# Altium footprint library spd1502.PcbLib: 80 footprints (part 4 of 5)
Each footprint in its own frame and in the unit in brackets; x right, y up, seen from the top. Pads: shape width x height; smd on the part's side, far side on the other; paste and mask are expansions set on the pad; w line width, h text height; cw(c..) or ccw(c..) is an arc to the next point about the centre after c.
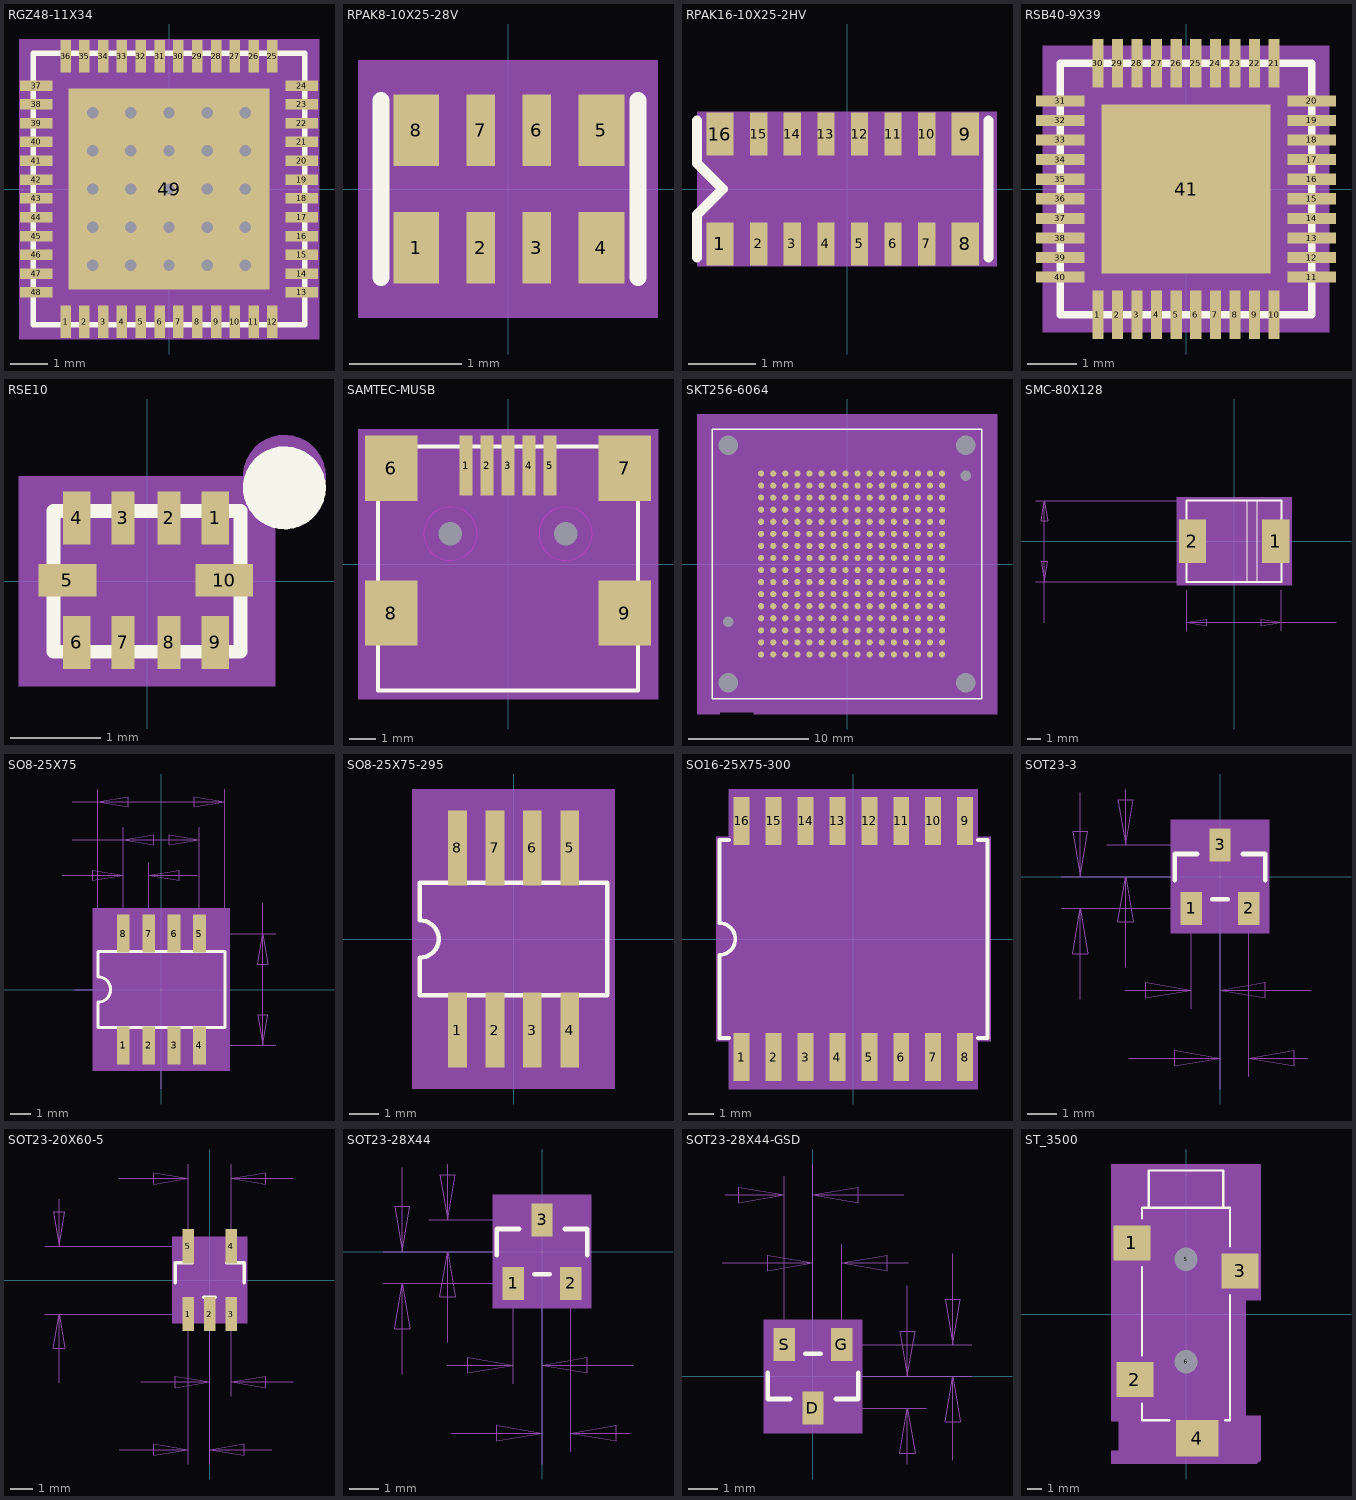
[diagram p3: the footprints below, top view; thin cyan lines are the x and y axes]

## RGZ48-11X34 [mil] "RGZ48-11X34"
pads (49):
  rect 11x34 smd: 1(-108.2,-139) 2(-88.6,-139) 3(-68.9,-139) 4(-49.2,-139) 5(-29.5,-139) 6(-9.8,-139) 7(9.8,-139) 8(29.5,-139) 9(49.2,-139) 10(68.9,-139) 11(88.6,-139) 12(108.2,-139) 25(108.2,139) 26(88.6,139) 27(68.9,139) 28(49.2,139) 29(29.5,139) 30(9.8,139) 31(-9.8,139) 32(-29.5,139) 33(-49.2,139) 34(-68.9,139) 35(-88.6,139) 36(-108.2,139)
  rect 34x11 smd: 13(139,-108.2) 14(139,-88.6) 15(139,-68.9) 16(139,-49.2) 17(139,-29.5) 18(139,-9.8) 19(139,9.8) 20(139,29.5) 21(139,49.2) 22(139,68.9) 23(139,88.6) 24(139,108.2) 37(-139,108.2) 38(-139,88.6) 39(-139,68.9) 40(-139,49.2) 41(-139,29.5) 42(-139,9.8) 43(-139,-9.8) 44(-139,-29.5) 45(-139,-49.2) 46(-139,-68.9) 47(-139,-88.6) 48(-139,-108.2)
  rect 210x210 smd: 49(0,0)
via 80,-80 diameter 25 hole 12
via 40,-80 diameter 25 hole 12
via 0,-80 diameter 25 hole 12
via -40,-80 diameter 25 hole 12
via -80,-80 diameter 25 hole 12
via 80,-40 diameter 25 hole 12
via 40,-40 diameter 25 hole 12
via 0,-40 diameter 25 hole 12
via -40,-40 diameter 25 hole 12
via -80,-40 diameter 25 hole 12
via 80,80 diameter 25 hole 12
via 40,80 diameter 25 hole 12
via 0,80 diameter 25 hole 12
via -40,80 diameter 25 hole 12
via -80,80 diameter 25 hole 12
via 80,40 diameter 25 hole 12
via 40,40 diameter 25 hole 12
via 0,40 diameter 25 hole 12
via -40,40 diameter 25 hole 12
via -80,40 diameter 25 hole 12
via -80,0 diameter 25 hole 12
via -40,0 diameter 25 hole 12
via 80,0 diameter 25 hole 12
via 40,0 diameter 25 hole 12
via 0,0 diameter 25 hole 12
Top Overlay:
  lines w6: -142,-142 -142,142 142,142 142,-142 -142,-142
  text ".Designator" at 105,-210 h35
Mechanical 15:
  text "30" at 12.8,183 h10
  text "4" at -45.2,-163 h10
  text "6" at -5.8,-163 h10
  text "12" at 113.2,-165 h10
  text "32" at -26.5,183 h10
  text "42" at -161,21.8 h10
  text "49" at 11,31 h10
  text "21" at 175,53.2 h10
  text "20" at 175,33.5 h10
  text "15" at 175,-64.9 h10
  text "26" at 91.6,183 h10
  text "2" at -84.6,-163 h10
  text "1" at -104.2,-163 h10
  text "19" at 175,13.8 h10
  text "10" at 72.9,-164 h10
  text "35" at -85.6,183 h10
  text "7" at 13.8,-163 h10
  text "34" at -65.9,183 h10
  text "9" at 53.2,-163 h10
  text "41" at -161,41.5 h10
  text "5" at -25.5,-163 h10
  text "37" at -175,111.2 h10
  text "25" at 111.2,183 h10
  text "44" at -161,-17.5 h10
  text "40" at -175,52.2 h10
  text "31" at -6.8,183 h10
  text "18" at 175,-5.8 h10
  text "36" at -105.2,183 h10
  text "47" at -161,-76.6 h10
  text "43" at -161,2.2 h10
  text "16" at 175,-45.2 h10
  text "17" at 175,-25.5 h10
  text "24" at 175,112.2 h10
  text "29" at 32.5,183 h10
  text "8" at 33.5,-163 h10
  text "39" at -175,71.9 h10
  text "38" at -175,91.6 h10
  text "48" at -161,-96.2 h10
  text "11" at 93.6,-165 h10
  text "14" at 175,-84.6 h10
  text "33" at -46.2,183 h10
  text "3" at -64.9,-163 h10
  text "23" at 175,92.6 h10
  text "22" at 175,72.9 h10
  text "28" at 52.2,183 h10
  text "27" at 71.9,183 h10
  text "13" at 175,-104.2 h10
  text "46" at -161,-56.9 h10
  text "45" at -161,-37.2 h10
Mechanical 16:
  pour cut-out: -142,142 142,142 142,-142 -142,-142
  region: 157,157 -157,157 -157,-157 157,-157
  lines w1: -142,-142 -142,142 142,142 142,-142 -142,-142

## RPAK8-10X25-28V [mil] "RPAK8-10X25-28V"
pads (8):
  rect 16x25 smd: 1(-32.1,-20.5) 4(32.7,-20.5) 5(32.7,20.5) 8(-32.1,20.5)
  rect 10x25 smd: 2(-9.5,-20.5) 3(10.1,-20.5) 6(10.1,20.5) 7(-9.5,20.5)
Top Overlay:
  lines w6: -44.5,-31 -44.5,31 ; 45.5,-31 45.5,31
  text ".Designator" at 690.3,175 h35
Mechanical 15:
  text "2" at -1.5,-20.5 h10
  text "7" at -1.5,25.5 h10
  text "4" at 40.7,-20.5 h10
  text "1" at -24.1,-20.5 h10
  text "8" at -24.1,25.5 h10
  text "6" at 18.1,25.5 h10
  text "3" at 18.1,-20.5 h10
  text "5" at 40.7,25.5 h10
Mechanical 16:
  region: -52.5,45 -52.5,-45 52.5,-45 52.5,45
  lines w2: 19.5,32 39.5,32 ; 39.5,32 39.5,-32 -38.5,-32 -38.5,32 39.5,32
Mechanical 17:
  text "PART#" at -44.1,-115 h40
  text "TOL" at -44.1,-115 h40
  text "RPACK4-22" at -39.1,-115 h40

## RPAK16-10X25-2HV [mil] "RPAK16-10X25-2HV"
pads (16):
  rect 16x25 smd: 1(-74.1,-32) 8(69.1,-32) 9(69.1,32) 16(-74.1,32)
  rect 10x25 smd: 2(-51.5,-32) 3(-31.9,-32) 4(-12.3,-32) 5(7.3,-32) 6(26.9,-32) 7(46.5,-32) 10(46.5,32) 11(26.9,32) 12(7.3,32) 13(-12.3,32) 14(-31.9,32) 15(-51.5,32)
Top Overlay:
  lines w6: -87.5,-40 -87.5,-15 -72.5,0 -87.5,15 -87.5,40 ; 82.5,-40 82.5,40
  text ".Designator" at 187.5,-115 h35
Mechanical 15:
  text "4" at -20.3,-32 h10
  text "2" at -59.5,-32 h10
  text "8" at 61.1,-32 h10
  text "1" at -82.1,-32 h10
  text "16" at -90.1,37 h10
  text "15" at -67.5,37 h10
  text "14" at -47.9,37 h10
  text "13" at -28.3,37 h10
  text "12" at -8.7,37 h10
  text "11" at 10.9,37 h10
  text "10" at 30.5,37 h10
  text "9" at 61.1,32 h10
  text "7" at 38.5,-32 h10
  text "3" at -39.9,-32 h10
  text "6" at 18.9,-32 h10
  text "5" at -0.7,-32 h10
Mechanical 16:
  region: -87.5,45 -87.5,-45 87.5,-45 87.5,45
  lines w2: -22.5,32 72.5,32 72.5,-32 -77.5,-32 -77.5,32 -2.5,32
Mechanical 17:
  text "PART#" at -86.1,-115 h40
  text "TOL" at -86.1,-115 h40
  text "RPACK8-22" at -81.1,-115 h40

## RSB40-9X39 [mil] "RSB40-9X39"
pads (41):
  rrect0% 9x39 smd: 1(-70.8,-101) 2(-55.1,-101) 3(-39.4,-101) 4(-23.6,-101) 5(-7.9,-101) 6(7.9,-101) 7(23.6,-101) 8(39.4,-101) 9(55.1,-101) 10(70.8,-101) 21(70.8,101) 22(55.1,101) 23(39.4,101) 24(23.6,101) 25(7.9,101) 26(-7.9,101) 27(-23.6,101) 28(-39.4,101) 29(-55.1,101) 30(-70.8,101)
  rrect0% 39x9 smd: 11(101,-70.8) 12(101,-55.1) 13(101,-39.4) 14(101,-23.6) 15(101,-7.9) 16(101,7.9) 17(101,23.6) 18(101,39.4) 19(101,55.1) 20(101,70.8) 31(-101,70.8) 32(-101,55.1) 33(-101,39.4) 34(-101,23.6) 35(-101,7.9) 36(-101,-7.9) 37(-101,-23.6) 38(-101,-39.4) 39(-101,-55.1) 40(-101,-70.8)
  rect 136x136 smd: 41(0,0)
Top Overlay:
  lines w6: -101,-101 -101,101 101,101 101,-101 -101,-101
  text ".Designator" at 80,115 h35
Mechanical 15:
  text "31" at -109,70.8 h10
  text "17" at 93,23.6 h10
  text "41" at -11,15 h10
  text "34" at -109,23.6 h10
  text "8" at 35.4,-101 h10
  text "3" at -43.4,-101 h10
  text "40" at -109,-70.8 h10
  text "10" at 62.8,-101 h10
  text "16" at 93,7.9 h10
  text "23" at 31.4,101 h10
  text "26" at -15.9,101 h10
  text "18" at 93,39.4 h10
  text "25" at -0.1,101 h10
  text "38" at -109,-39.4 h10
  text "24" at 15.6,101 h10
  text "1" at -74.8,-101 h10
  text "4" at -27.6,-101 h10
  text "9" at 51.1,-101 h10
  text "21" at 62.8,101 h10
  text "37" at -109,-23.6 h10
  text "13" at 93,-39.4 h10
  text "32" at -109,55.1 h10
  text "12" at 93,-55.1 h10
  text "2" at -59.1,-101 h10
  text "28" at -47.4,101 h10
  text "39" at -109,-55.1 h10
  text "22" at 47.1,101 h10
  text "14" at 93,-23.6 h10
  text "11" at 93,-70.8 h10
  text "27" at -31.6,101 h10
  text "15" at 93,-7.9 h10
  text "7" at 19.6,-101 h10
  text "35" at -109,7.9 h10
  text "19" at 93,55.1 h10
  text "36" at -109,-7.9 h10
  text "6" at 3.9,-101 h10
  text "5" at -11.9,-101 h10
  text "29" at -63.1,101 h10
  text "30" at -78.8,101 h10
  text "33" at -109,39.4 h10
  text "20" at 93,70.8 h10
Mechanical 16:
  region: 115,-115 115,115 -115,115 -115,-115
  lines w1: -101,-101 -101,101 101,101 101,-101 -101,-101

## RSE10 [mil] "RSE10"
pads (10):
  rect 12x23 smd: 1(29.5,27.5) 4(-30.5,27.5) 6(-30.5,-26.5) 9(29.5,-26.5)
  rect 10x23 smd: 2(9.5,27.5) 3(-10.5,27.5) 7(-10.5,-26.5) 8(9.5,-26.5)
  rect 25x14 smd: 5(-34.5,0.5) 10(33.5,0.5)
Top Overlay:
  circle w6: c54.5,40.5 r5
  circle w6: c59.5,40.5 r15
  circle w6: c59.5,40.5 r10
  circle w6: c59.5,40.5 r5
  lines w6: -40.5,-30.5 -40.5,30.5 40.5,30.5 40.5,-30.5 -40.5,-30.5
  text ".Designator" at -150.5,50.5 h35
Mechanical 15:
  text "6" at -37.5,-36.5 h25
  text "4" at -38.5,24.5 h25
  text "9" at 23.5,-35.5 h25
  text "5" at -43.5,-6.5 h25
  text "3" at -18.5,22.5 h25
  text "2" at 3.5,23.5 h25
  text "7" at -16.5,-35.5 h25
  text "8" at 1.5,-36.5 h25
  text "10" at 22.5,-28.5 h25
  text "1" at 23.5,23.5 h25
Mechanical 16:
  circle w6: c54.5,45.5 r5
  circle w6: c59.5,45.5 r15
  circle w6: c59.5,45.5 r10
  circle w6: c59.5,45.5 r5
  pour cut-out: 40.5,30.5 40.5,-30.5 -40.5,-30.5 -40.5,30.5
  region: 55.5,45.5 -55.5,45.5 -55.5,-45.5 55.5,-45.5
  lines w1: -40.5,-30.5 -40.5,30.5 40.5,30.5 40.5,-30.5 -40.5,-30.5

## SAMTEC-MUSB [mil] "SAMTEC-MUSB"
pads (11):
  rect 20x90 smd: 1(-63,147.5) 2(-31.5,147.5) 3(0,147.5) 4(31.5,147.5) 5(63,147.5)
  rect 79x98 smd: 6(-175,143.5) 7(175,143.5) 8(-175,-73.5) 9(175,-73.5)
  round 20 / inner round 80 / far side round 20 hole 35: " "(-86.5,45.5) " "(86.5,45.5)
Top Overlay:
  lines w6: -195,-189.5 195,-189.5 195,176.5 -195,176.5 -195,-189.5
  text ".Designator" at -275,12.5 h35
Mechanical 15:
  text "4" at 31.5,163.5 h40
  text "5" at 63,163.5 h40
  text "6" at -175,159.5 h40
  text "8" at -175,-57.5 h40
  text "7" at 175,159.5 h40
  text "9" at 175,-57.5 h40
  text "1" at -63,163.5 h40
  text "2" at -31.5,163.5 h40
  text "3" at 0,163.5 h40
Mechanical 16:
  region: -225,202.5 225,202.5 225,-202.5 -225,-202.5
  lines w6: -195,-189.5 -195,176.5 195,176.5 195,-189.5 -195,-189.5
Multi-Layer keep-out:
  circle w1: c86.5,45.5 r40
  circle w1: c-86.5,45.5 r40

## SKT256-6064 [mil] "SKT256-6064"
pads (262):
  round 40 / inner round 93 / far side round 40 hole 63: " "(-388.3,-388.3) " "(-388.3,388.3) " "(388.3,-388.3) " "(388.3,388.3)
  round 20 / inner round 80 / far side round 20 hole 34: " "(-388.3,-188.3) " "(388.3,288.3)
  round 20 smd: A1(-280.4,295.5) A2(-241,295.5) A3(-201.6,295.5) A4(-162.2,295.5) A5(-122.8,295.5) A6(-83.4,295.5) A7(-44,295.5) A8(-4.6,295.5) A9(34.8,295.5) A10(74.2,295.5) A11(113.6,295.5) A12(153,295.5) A13(192.4,295.5) A14(231.8,295.5) A15(271.2,295.5) A16(310.6,295.5) B1(-280.4,256.1) B2(-241,256.1) B3(-201.6,256.1) B4(-162.2,256.1) B5(-122.8,256.1) B6(-83.4,256.1) B7(-44,256.1) B8(-4.6,256.1) B9(34.8,256.1) B10(74.2,256.1) B11(113.6,256.1) B12(153,256.1) B13(192.4,256.1) B14(231.8,256.1) B15(271.2,256.1) B16(310.6,256.1) C1(-280.4,216.7) C2(-241,216.7) C3(-201.6,216.7) C4(-162.2,216.7) C5(-122.8,216.7) C6(-83.4,216.7) C7(-44,216.7) C8(-4.6,216.7) C9(34.8,216.7) C10(74.2,216.7) C11(113.6,216.7) C12(153,216.7) C13(192.4,216.7) C14(231.8,216.7) C15(271.2,216.7) C16(310.6,216.7) D1(-280.4,177.3) D2(-241,177.3) D3(-201.6,177.3) D4(-162.2,177.3) D5(-122.8,177.3) D6(-83.4,177.3) D7(-44,177.3) D8(-4.6,177.3) D9(34.8,177.3) D10(74.2,177.3) D11(113.6,177.3) D12(153,177.3) D13(192.4,177.3) D14(231.8,177.3) D15(271.2,177.3) D16(310.6,177.3) E1(-280.4,137.9) E2(-241,137.9) E3(-201.6,137.9) E4(-162.2,137.9) E5(-122.8,137.9) E6(-83.4,137.9) E7(-44,137.9) E8(-4.6,137.9) E9(34.8,137.9) E10(74.2,137.9) E11(113.6,137.9) E12(153,137.9) E13(192.4,137.9) E14(231.8,137.9) E15(271.2,137.9) E16(310.6,137.9) F1(-280.4,98.5) F2(-241,98.5) F3(-201.6,98.5) F4(-162.2,98.5) F5(-122.8,98.5) F6(-83.4,98.5) F7(-44,98.5) F8(-4.6,98.5) F9(34.8,98.5) F10(74.2,98.5) F11(113.6,98.5) F12(153,98.5) F13(192.4,98.5) F14(231.8,98.5) F15(271.2,98.5) F16(310.6,98.5) G1(-280.4,59.1) G2(-241,59.1) G3(-201.6,59.1) G4(-162.2,59.1) G5(-122.8,59.1) G6(-83.4,59.1) G7(-44,59.1) G8(-4.6,59.1) G9(34.8,59.1) G10(74.2,59.1) G11(113.6,59.1) G12(153,59.1) G13(192.4,59.1) G14(231.8,59.1) G15(271.2,59.1) G16(310.6,59.1) H1(-280.4,19.7) H2(-241,19.7) H3(-201.6,19.7) H4(-162.2,19.7) H5(-122.8,19.7) H6(-83.4,19.7) H7(-44,19.7) H8(-4.6,19.7) H9(34.8,19.7) H10(74.2,19.7) H11(113.6,19.7) H12(153,19.7) H13(192.4,19.7) H14(231.8,19.7) H15(271.2,19.7) H16(310.6,19.7) J1(-280.4,-19.7) J2(-241,-19.7) J3(-201.6,-19.7) J4(-162.2,-19.7) J5(-122.8,-19.7) J6(-83.4,-19.7) J7(-44,-19.7) J8(-4.6,-19.7) J9(34.8,-19.7) J10(74.2,-19.7) J11(113.6,-19.7) J12(153,-19.7) J13(192.4,-19.7) J14(231.8,-19.7) J15(271.2,-19.7) J16(310.6,-19.7) K1(-280.4,-59.1) K2(-241,-59.1) K3(-201.6,-59.1) K4(-162.2,-59.1) K5(-122.8,-59.1) K6(-83.4,-59.1) K7(-44,-59.1) K8(-4.6,-59.1) K9(34.8,-59.1) K10(74.2,-59.1) K11(113.6,-59.1) K12(153,-59.1) K13(192.4,-59.1) K14(231.8,-59.1) K15(271.2,-59.1) K16(310.6,-59.1) L1(-280.4,-98.5) L2(-241,-98.5) L3(-201.6,-98.5) L4(-162.2,-98.5) L5(-122.8,-98.5) L6(-83.4,-98.5) L7(-44,-98.5) L8(-4.6,-98.5) L9(34.8,-98.5) L10(74.2,-98.5) L11(113.6,-98.5) L12(153,-98.5) L13(192.4,-98.5) L14(231.8,-98.5) L15(271.2,-98.5) L16(310.6,-98.5) M1(-280.4,-137.9) M2(-241,-137.9) M3(-201.6,-137.9) M4(-162.2,-137.9) M5(-122.8,-137.9) M6(-83.4,-137.9) M7(-44,-137.9) M8(-4.6,-137.9) M9(34.8,-137.9) M10(74.2,-137.9) M11(113.6,-137.9) M12(153,-137.9) M13(192.4,-137.9) M14(231.8,-137.9) M15(271.2,-137.9) M16(310.6,-137.9) N1(-280.4,-177.3) N2(-241,-177.3) N3(-201.6,-177.3) N4(-162.2,-177.3) N5(-122.8,-177.3) N6(-83.4,-177.3) N7(-44,-177.3) N8(-4.6,-177.3) N9(34.8,-177.3) N10(74.2,-177.3) N11(113.6,-177.3) N12(153,-177.3) N13(192.4,-177.3) N14(231.8,-177.3) N15(271.2,-177.3) N16(310.6,-177.3) P1(-280.4,-216.7) P2(-241,-216.7) P3(-201.6,-216.7) P4(-162.2,-216.7) P5(-122.8,-216.7) P6(-83.4,-216.7) P7(-44,-216.7) P8(-4.6,-216.7) P9(34.8,-216.7) P10(74.2,-216.7) P11(113.6,-216.7) P12(153,-216.7) P13(192.4,-216.7) P14(231.8,-216.7) P15(271.2,-216.7) P16(310.6,-216.7) R1(-280.4,-256.1) R2(-241,-256.1) R3(-201.6,-256.1) R4(-162.2,-256.1) R5(-122.8,-256.1) R6(-83.4,-256.1) R7(-44,-256.1) R8(-4.6,-256.1) R9(34.8,-256.1) R10(74.2,-256.1) R11(113.6,-256.1) R12(153,-256.1) R13(192.4,-256.1) R14(231.8,-256.1) R15(271.2,-256.1) R16(310.6,-256.1) T1(-280.4,-295.5) T2(-241,-295.5) T3(-201.6,-295.5) T4(-162.2,-295.5) T5(-122.8,-295.5) T6(-83.4,-295.5) T7(-44,-295.5) T8(-4.6,-295.5) T9(34.8,-295.5) T10(74.2,-295.5) T11(113.6,-295.5) T12(153,-295.5) T13(192.4,-295.5) T14(231.8,-295.5) T15(271.2,-295.5) T16(310.6,-295.5)
Top Overlay:
  lines w6: -440,-440 -440,440 440,440 440,-440 -440,-440
Mechanical 15:
  text "N2" at -249,-177.3 h10
  text "A15" at 259.2,295.5 h10
  text "A16" at 298.6,295.5 h10
  text "B2" at -249,256.1 h10
  text "A1" at -288.4,295.5 h10
  text "A2" at -249,295.5 h10
  text "F8" at -12.6,98.5 h10
  text "E11" at 101.6,137.9 h10
  text "E10" at 62.2,137.9 h10
  text "F10" at 62.2,98.5 h10
  text "F9" at 26.8,98.5 h10
  text "G8" at -12.6,59.1 h10
  text "G9" at 26.8,59.1 h10
  text "E7" at -52,137.9 h10
  text "E6" at -91.4,137.9 h10
  text "H8" at -12.6,19.7 h10
  text "H9" at 26.8,19.7 h10
  text "K8" at -12.6,-59.1 h10
  text "J8" at -12.6,-19.7 h10
  text "L10" at 62.2,-98.5 h10
  text "M10" at 62.2,-137.9 h10
  text "L9" at 26.8,-98.5 h10
  text "M11" at 101.6,-137.9 h10
  text "J9" at 26.8,-19.7 h10
  text "K9" at 26.8,-59.1 h10
  text "M7" at -52,-137.9 h10
  text "L7" at -52,-98.5 h10
  text "M6" at -91.4,-137.9 h10
  text "L8" at -12.6,-98.5 h10
  text "T15" at 259.2,-295.5 h10
  text "T16" at 298.6,-295.5 h10
  text "T1" at -288.4,-295.5 h10
  text "T2" at -249,-295.5 h10
  text "M2" at -249,-137.9 h10
  text "L3" at -209.6,-98.5 h10
  text "D4" at -170.2,177.3 h10
  text "A7" at -52,295.5 h10
  text "C5" at -130.8,216.7 h10
  text "P2" at -249,-216.7 h10
  text "N6" at -91.4,-177.3 h10
  text "M1" at -288.4,-137.9 h10
  text "L2" at -249,-98.5 h10
  text "T7" at -52,-295.5 h10
  text "L16" at 298.6,-98.5 h10
  text "C7" at -52,216.7 h10
  text "N12" at 141,-177.3 h10
  text "B5" at -130.8,256.1 h10
  text "B6" at -91.4,256.1 h10
  text "B3" at -209.6,256.1 h10
  text "A3" at -209.6,295.5 h10
  text "N10" at 62.2,-177.3 h10
  text "T14" at 219.8,-295.5 h10
  text "P11" at 101.6,-216.7 h10
  text "N7" at -52,-177.3 h10
  text "L1" at -288.4,-98.5 h10
  text "R14" at 219.8,-256.1 h10
  text "B7" at -52,256.1 h10
  text "C8" at -12.6,216.7 h10
  text "N1" at -288.4,-177.3 h10
  text "P12" at 141,-216.7 h10
  text "N3" at -209.6,-177.3 h10
  text "T13" at 180.4,-295.5 h10
  text "B4" at -170.2,256.1 h10
  text "R15" at 259.2,-256.1 h10
  text "H12" at 141,19.7 h10
  text "H6" at -91.4,19.7 h10
  text "R13" at 180.4,-256.1 h10
  text "N8" at -12.6,-177.3 h10
  text "T3" at -209.6,-295.5 h10
  text "M14" at 219.8,-137.9 h10
  text "M3" at -209.6,-137.9 h10
  text "P15" at 259.2,-216.7 h10
  text "K3" at -209.6,-59.1 h10
  text "A5" at -130.8,295.5 h10
  text "P13" at 180.4,-216.7 h10
  text "N15" at 259.2,-177.3 h10
  text "A4" at -170.2,295.5 h10
  text "N13" at 180.4,-177.3 h10
  text "M15" at 259.2,-137.9 h10
  text "N11" at 101.6,-177.3 h10
  text "R9" at 26.8,-256.1 h10
  text "T9" at 26.8,-295.5 h10
  text "R10" at 62.2,-256.1 h10
  text "N9" at 26.8,-177.3 h10
  text "P9" at 26.8,-216.7 h10
  text "T10" at 62.2,-295.5 h10
  text "T12" at 141,-295.5 h10
  text "P8" at -12.6,-216.7 h10
  text "M13" at 180.4,-137.9 h10
  text "R8" at -12.6,-256.1 h10
  text "F7" at -52,98.5 h10
  text "P16" at 298.6,-216.7 h10
  text "B16" at 298.6,256.1 h10
  text "E8" at -12.6,137.9 h10
  text "E9" at 26.8,137.9 h10
  text "F11" at 101.6,98.5 h10
  text "E12" at 141,137.9 h10
  text "G12" at 141,59.1 h10
  text "F12" at 141,98.5 h10
  text "E5" at -130.8,137.9 h10
  text "F5" at -130.8,98.5 h10
  text "G5" at -130.8,59.1 h10
  text "M8" at -12.6,-137.9 h10
  text "M9" at 26.8,-137.9 h10
  text "M12" at 141,-137.9 h10
  text "L11" at 101.6,-98.5 h10
  text "L12" at 141,-98.5 h10
  text "K12" at 141,-59.1 h10
  text "M5" at -130.8,-137.9 h10
  text "K5" at -130.8,-59.1 h10
  text "L5" at -130.8,-98.5 h10
  text "R16" at 298.6,-256.1 h10
  text "R1" at -288.4,-256.1 h10
  text "P14" at 219.8,-216.7 h10
  text "N16" at 298.6,-177.3 h10
  text "D1" at -288.4,177.3 h10
  text "H10" at 62.2,19.7 h10
  text "H11" at 101.6,19.7 h10
  text "G11" at 101.6,59.1 h10
  text "G10" at 62.2,59.1 h10
  text "L6" at -91.4,-98.5 h10
  text "K6" at -91.4,-59.1 h10
  text "J6" at -91.4,-19.7 h10
  text "K11" at 101.6,-59.1 h10
  text "K10" at 62.2,-59.1 h10
  text "J11" at 101.6,-19.7 h10
  text "J12" at 141,-19.7 h10
  text "J10" at 62.2,-19.7 h10
  text "J7" at -52,-19.7 h10
  text "K7" at -52,-59.1 h10
  text "H7" at -52,19.7 h10
  text "G6" at -91.4,59.1 h10
  text "G7" at -52,59.1 h10
  text "F6" at -91.4,98.5 h10
  text "R12" at 141,-256.1 h10
  text "N14" at 219.8,-177.3 h10
  text "M16" at 298.6,-137.9 h10
  text "E2" at -249,137.9 h10
  text "F1" at -288.4,98.5 h10
  text "K1" at -288.4,-59.1 h10
  text "G3" at -209.6,59.1 h10
  text "J3" at -209.6,-19.7 h10
  text "J2" at -249,-19.7 h10
  text "R7" at -52,-256.1 h10
  text "J1" at -288.4,-19.7 h10
  text "H2" at -249,19.7 h10
  text "G2" at -249,59.1 h10
  text "C1" at -288.4,216.7 h10
  text "F2" at -249,98.5 h10
  text "C2" at -249,216.7 h10
  text "H1" at -288.4,19.7 h10
  text "B1" at -288.4,256.1 h10
  text "H3" at -209.6,19.7 h10
  text "C3" at -209.6,216.7 h10
  text "J5" at -130.8,-19.7 h10
  text "D2" at -249,177.3 h10
  text "J4" at -170.2,-19.7 h10
  text "E3" at -209.6,137.9 h10
  text "E4" at -170.2,137.9 h10
  text "H5" at -130.8,19.7 h10
  text "D3" at -209.6,177.3 h10
  text "F16" at 298.6,98.5 h10
  text "G14" at 219.8,59.1 h10
  text "G13" at 180.4,59.1 h10
  text "G16" at 298.6,59.1 h10
  text "P3" at -209.6,-216.7 h10
  text "H13" at 180.4,19.7 h10
  text "R5" at -130.8,-256.1 h10
  text "H16" at 298.6,19.7 h10
  text "J13" at 180.4,-19.7 h10
  text "R6" at -91.4,-256.1 h10
  text "P4" at -170.2,-216.7 h10
  text "J15" at 259.2,-19.7 h10
  text "P6" at -91.4,-216.7 h10
  text "C6" at -91.4,216.7 h10
  text "J16" at 298.6,-19.7 h10
  text "N4" at -170.2,-177.3 h10
  text "F4" at -170.2,98.5 h10
  text "G4" at -170.2,59.1 h10
  text "H14" at 219.8,19.7 h10
  text "G15" at 259.2,59.1 h10
  text "C16" at 298.6,216.7 h10
  text "T6" at -91.4,-295.5 h10
  text "N5" at -130.8,-177.3 h10
  text "K15" at 259.2,-59.1 h10
  text "D13" at 180.4,177.3 h10
  text "C15" at 259.2,216.7 h10
  text "B13" at 180.4,256.1 h10
  text "D6" at -91.4,177.3 h10
  text "A12" at 141,295.5 h10
  text "D14" at 219.8,177.3 h10
  text "K14" at 219.8,-59.1 h10
  text "R4" at -170.2,-256.1 h10
  text "B9" at 26.8,256.1 h10
  text "D15" at 259.2,177.3 h10
  text "P5" at -130.8,-216.7 h10
  text "D11" at 101.6,177.3 h10
  text "T5" at -130.8,-295.5 h10
  text "C10" at 62.2,216.7 h10
  text "C11" at 101.6,216.7 h10
  text "D10" at 62.2,177.3 h10
  text "R3" at -209.6,-256.1 h10
  text "C9" at 26.8,216.7 h10
  text "A10" at 62.2,295.5 h10
  text "B10" at 62.2,256.1 h10
  text "D16" at 298.6,177.3 h10
  text "B11" at 101.6,256.1 h10
  text "C12" at 141,216.7 h10
  text "B15" at 259.2,256.1 h10
  text "B12" at 141,256.1 h10
  text "D12" at 141,177.3 h10
  text "E13" at 180.4,137.9 h10
  text "A9" at 26.8,295.5 h10
  text "A11" at 101.6,295.5 h10
  text "L13" at 180.4,-98.5 h10
  text "C14" at 219.8,216.7 h10
  text "D9" at 26.8,177.3 h10
  text "E16" at 298.6,137.9 h10
  text "A8" at -12.6,295.5 h10
  text "C13" at 180.4,216.7 h10
  text "F13" at 180.4,98.5 h10
  text "G1" at -288.4,59.1 h10
  text "F15" at 259.2,98.5 h10
  text "F14" at 219.8,98.5 h10
  text "E15" at 259.2,137.9 h10
  text "E14" at 219.8,137.9 h10
  text "D7" at -52,177.3 h10
  text "P1" at -288.4,-216.7 h10
  text "K2" at -249,-59.1 h10
  text "A14" at 219.8,295.5 h10
  text "B8" at -12.6,256.1 h10
  text "B14" at 219.8,256.1 h10
  text "T4" at -170.2,-295.5 h10
  text "A13" at 180.4,295.5 h10
  text "M4" at -170.2,-137.9 h10
  text "L15" at 259.2,-98.5 h10
  text "A6" at -91.4,295.5 h10
  text "L14" at 219.8,-98.5 h10
  text "R2" at -249,-256.1 h10
  text "K16" at 298.6,-59.1 h10
  text "K4" at -170.2,-59.1 h10
  text "K13" at 180.4,-59.1 h10
  text "J14" at 219.8,-19.7 h10
  text "L4" at -170.2,-98.5 h10
  text "H15" at 259.2,19.7 h10
  text "C4" at -170.2,216.7 h10
  text "D8" at -12.6,177.3 h10
  text "R11" at 101.6,-256.1 h10
  text "T11" at 101.6,-295.5 h10
  text "P10" at 62.2,-216.7 h10
  text "D5" at -130.8,177.3 h10
  text "P7" at -52,-216.7 h10
  text "T8" at -12.6,-295.5 h10
  text "E1" at -288.4,137.9 h10
  text "H4" at -170.2,19.7 h10
  text "F3" at -209.6,98.5 h10
Mechanical 16:
  region: 490,490 -490,490 -490,-490 -415,-490 -415,-485 -305,-485 -305,-490 490,-490
  lines w1: -440,-440 -440,440 440,440 440,-440 -440,-440
Mechanical 17:
  text ".Designator" at -39.4,-407.5 h40
  text "OMAPL137AZKB3" at 13.6,-405.5 h40
  text "TOL" at 47.6,-407.5 h40
  text "PART#" at 3.6,-406.5 h40

## SMC-80X128 [mil] "SMC-80X128"
pads (2):
  rect 80x128 smd: 1(123,0) 2(-123,0)
Top Overlay:
  lines w1: 39,-120 39,120 69,120 69,-120 39,-120
  lines w6: -140,-120 -140,120 140,120 140,-120 -140,-120
  text ".Designator" at 20,175 h35
Mechanical 15:
  text "2" at -144,36 h40
  text "1" at 145,31 h40
Mechanical 16:
  region: 170,-130 -170,-130 -170,130 170,130
  lines w1: -585,-120 -165,-120 ; -585,120 -165,120 ; -560,-241 -560,-120 ; -140,-265 -140,-145 ; 140,-265 140,-145 ; 301,-240 140,-240 ; -560,-120 -550,-60 -570,-60 -560,-120 ; -560,-120 -560,120 ; -560,120 -570,60 -550,60 -560,120 ; -140,-240 -80,-250 -80,-230 -140,-240 ; -140,-240 140,-240 ; 140,-240 80,-230 80,-250 140,-240 ; -140,-120 -140,120 140,120 140,-120 -140,-120 ; 40,-120 40,120 69,120 69,-120 40,-120
Mechanical 20:
  text ".280" at 509,-220 h40
  text ".240" at -580,-271 h40
  text "SMC-80X128" at 217,-345 h40

## SO8-25X75 [mil] "SO8-25X75"
pads (8):
  rrect0% 25x75 smd: 1(-75,-110) 2(-25,-110) 3(25,-110) 4(75,-110) 5(75,110) 6(25,110) 7(-25,110) 8(-75,110)
Top Overlay:
  lines w6: -125,-75 125,-75 125,75 -125,75 -125,25 cw(c-125,0) -125,-25 -125,-75
Mechanical 15:
  text "1" at -91,-110 h40
  text "4" at 59,-110 h40
  text "8" at -91,110 h40
  text "6" at 9,110 h40
  text "7" at -41,110 h40
  text "3" at 9,-110 h40
  text "2" at -41,-110 h40
  text "5" at 59,110 h40
Mechanical 16:
  region: -135,160 135,160 135,-160 -135,-160
  lines w1: -195,225 -75,225 ; -176,295 -75,295 ; -176,370 -125,370 ; -171,0 -25,0 ; -125,100 -125,395 ; -75,250 -75,135 -75,320 ; -25,135 -25,250 ; 0,-196 0,-25 ; 71,225 -25,225 ; 75,135 75,320 ; 100,-110 225,-110 ; 100,110 225,110 ; 125,100 125,395 ; 200,171 200,110 ; -125,-75 -125,-25 ; -125,-75 -125,-25 ; -125,-75 -75,-75 -25,-75 125,-75 125,75 -25,75 -75,75 -125,75 ; -125,-25 ccw(c-125,0) -125,25 ; -125,25 -125,75 ; -125,25 -125,75 ; -125,370 -65,360 -65,380 -125,370 ; -125,370 125,370 ; -75,225 -135,235 -135,215 -75,225 ; -75,295 -15,285 -15,305 -75,295 ; -75,295 75,295 ; -25,225 35,215 35,235 -25,225 ; 75,295 15,305 15,285 75,295 ; 125,370 65,380 65,360 125,370 ; 200,-110 200,110 ; 200,-110 210,-50 190,-50 200,-110 ; 200,110 190,50 210,50 200,110
Mechanical 17:
  text ".Designator" at -5,0 h40
  text "TPS2065D" at -125,-40 h40
  text "X" at -85,-40 h40
  text "X" at -45,-40 h40
Mechanical 20:
  text "PAD 25X75OV" at -225,-350 h40
  text "SM  33X83OV" at -225,-425 h40
  text "SP  25X75OV" at -225,-500 h40
  text "SO8-25X75" at -240,470 h40
  text "0" at -20,-270 h40
  text "0" at -245,-20 h40
  text ".050" at -400,200 h40
  text ".220" at 220,205 h40
  text ".150" at -400,275 h40
  text ".250" at -400,350 h40

## SO8-25X75-295 [mil] "SO8-25X75-295"
pads (8):
  rrect0% 25x100 smd: 1(-75,-121.5) 2(-25,-121.5) 3(25,-121.5) 4(75,-121.5) 5(75,121.5) 6(25,121.5) 7(-25,121.5) 8(-75,121.5)
Top Overlay:
  lines w6: -125,-75 125,-75 125,75 -125,75 -125,25 cw(c-125,0) -125,-25 -125,-75
Mechanical 15:
  text "4" at 59,-121.5 h40
  text "7" at -41,121.5 h40
  text "3" at 9,-121.5 h40
  text "2" at -41,-121.5 h40
  text "1" at -91,-121.5 h40
  text "5" at 59,121.5 h40
  text "6" at 9,121.5 h40
  text "8" at -91,121.5 h40
Mechanical 16:
  region: -135,200 135,200 135,-200 -135,-200
  lines w1: -125,-75 -125,-25 ; -125,-75 -125,-25 ; -125,-75 -75,-75 -25,-75 125,-75 125,75 -25,75 -75,75 -125,75 ; -125,-25 ccw(c-125,0) -125,25 ; -125,25 -125,75 ; -125,25 -125,75
Mechanical 17:
  text ".Designator" at -5,0 h40
  text "24WC256" at -125,-40 h40
  text "X" at -85,-40 h40
  text "X" at -45,-40 h40

## SO16-25X75-300 [mil] "SO16-25X75-300"
pads (16):
  rrect0% 25x75 smd: 1(-175,-185) 2(-125,-185) 3(-75,-185) 4(-25,-185) 5(25,-185) 6(75,-185) 7(125,-185) 8(175,-185) 9(175,185) 10(125,185) 11(75,185) 12(25,185) 13(-25,185) 14(-75,185) 15(-125,185) 16(-175,185)
Top Overlay:
  lines w6: -195,-155 -210,-155 -210,-25 ccw(c-210,0) -210,25 -210,155 -195,155 ; 195,-155 210,-155 210,155 195,155
  text ".Designator" at 265,-140 h35
Mechanical 15:
  text "11" at 69,185 h20
  text "12" at 19,185 h20
  text "13" at -31,185 h20
  text "14" at -81,185 h20
  text "3" at -83,-185 h20
  text "4" at -33,-185 h20
  text "5" at 17,-185 h20
  text "6" at 67,-185 h20
  text "10" at 119,185 h20
  text "7" at 117,-185 h20
  text "15" at -131,185 h20
  text "8" at 167,-185 h20
  text "16" at -181,185 h20
  text "9" at 167,185 h20
  text "1" at -183,-185 h20
  text "2" at -133,-185 h20
Mechanical 16:
  region: -195,235 195,235 195,160 215,160 215,-160 195,-160 195,-235 -195,-235 -195,-160 -215,-160 -215,160 -195,160
  lines w1: -205,-150 205,-150 205,150 -205,150 -205,25 cw(c-205,0) -205,-25 -205,-150
Mechanical 17:
  text "X" at -45,-40 h35
  text "X" at -85,-40 h35
  text "W25X32VSFIG" at -125,-40 h35

## SOT23-3 [mil] "SOT23-3"
pads (3):
  rect 28x44 smd: 1(-38,-42) 2(38,-42) 3(0,42)
Top Overlay:
  lines w6: -60,-5 -60,30 -30,30 ; -10,-30 10,-30 ; 30,30 60,30 60,-5
Mechanical 15:
  text "2" at 52,-42 h35
  text "3" at 14,42 h35
  text "1" at -24,-42 h35
Mechanical 16:
  region: -65,-75 65,-75 65,75 -65,75
  lines w1: -210,-42 -63,-42 ; -210,0 -120,0 ; -185,-162 -185,-42 ; -185,111 -185,0 ; -181,0 -25,0 ; -150,0 -135,0 ; -150,42 -25,42 ; -130,0 -105,0 ; -126,-150 -38,-150 ; -125,-120 -125,0 ; -125,116 -125,42 ; -120,-240 0,-240 ; -60,-10 -60,30 ; -38,-175 -38,-67 ; -30,30 -60,30 ; -10,-30 10,-30 ; 0,-281 0,-25 ; 0,-265 0,-75 ; 0,-175 0,-90 ; 30,30 60,30 ; 38,-265 38,-67 ; 60,-10 60,30 ; 116,-240 38,-240 ; 120,-150 0,-150 ; -185,-42 -195,-102 -175,-102 -185,-42 ; -185,0 -175,60 -195,60 -185,0 ; -125,0 -135,-60 -115,-60 -125,0 ; -125,42 -115,102 -135,102 -125,42 ; -60,30 60,30 ; -60,30 -60,-30 60,-30 60,30 ; -38,-150 -98,-140 -98,-160 -38,-150 ; 0,-240 -60,-230 -60,-250 0,-240 ; 0,-150 60,-160 60,-140 0,-150 ; 38,-240 98,-250 98,-230 38,-240
Multi-Layer:
  region: -20,20 20,20 20,-65 -20,-65
Mechanical 17:
  text "X" at 50,5 h40
  text "X" at 15,5 h40
  text "MMBD4148" at -20,5 h40
  text ".Designator" at -76,-42 h40
Mechanical 20:
  text "0" at -255,-20 h40
  text "0" at -20,-355 h40
  text ".042" at -105,150 h40
  text ".042" at -165,145 h40
  text ".038" at -350,-170 h40
  text ".038" at 150,-260 h40
  text "SOT23-28X44" at -240,385 h40
  text "SP  28X44REC" at -280,-615 h40
  text "SM  36X50REC" at -280,-540 h40
  text "PAD 28X44REC" at -280,-475 h40

## SOT23-20X60-5 [mil] "SOT23-20X60-5"
pads (5):
  rect 20x60 smd: 1(-37.4,-59) 2(0,-59) 3(37.4,-59) 4(37.4,59) 5(-37.4,59)
Top Overlay:
  lines w6: -60,-5 -60,30 -30,30 ; -10,-30 10,-30 ; 30,30 60,30 60,-5
  text ".Designator" at 60,-145 h35
Mechanical 15:
  text "2" at 0,-91 h80
  text "4" at 37.4,27 h80
  text "3" at 37.4,-91 h80
  text "1" at -37.4,-91 h80
  text "5" at -37.4,27 h80
Mechanical 16:
  region: -65,-75 65,-75 65,75 -65,75
  lines w1: -286.8,-59 -62.4,-59 ; -286.8,59 -62.4,59 ; -261.8,-179 -261.8,-59 ; -261.8,141 -261.8,59 ; -157.4,-295 -37.4,-295 ; -157.4,177 -37.4,177 ; -120,-177 0,-177 ; -60,-10 -60,30 ; -37.4,-320 -37.4,-84 ; -37.4,84 -37.4,202 ; -30,30 -60,30 ; -10,-30 10,-30 ; 0,-320 0,-84 0,-202 ; 30,30 60,30 ; 37.4,-202 37.4,-84 ; 37.4,84 37.4,202 ; 60,-10 60,30 ; 107.8,-295 0,-295 ; 145.2,-177 37.4,-177 ; 145.2,177 37.4,177 ; -261.8,-59 -271.8,-119 -251.8,-119 -261.8,-59 ; -261.8,59 -251.8,119 -271.8,119 -261.8,59 ; -60,30 60,30 ; -60,30 -60,-30 60,-30 60,30 ; -37.4,-295 -97.4,-285 -97.4,-305 -37.4,-295 ; -37.4,177 -97.4,187 -97.4,167 -37.4,177 ; 0,-295 60,-305 60,-285 0,-295 ; 0,-177 -60,-167 -60,-187 0,-177 ; 37.4,-177 97.4,-187 97.4,-167 37.4,-177 ; 37.4,177 97.4,167 97.4,187 37.4,177
Multi-Layer:
  region: -20,20 20,20 20,-65 -20,-65
Mechanical 17:
  text "TPS79901-ADJ" at -20,5 h40
  text "X" at 15,5 h40
  text "X" at 50,5 h40
Mechanical 20:
  text "PAD 20X60REC" at 105,60 h40
  text "SOT23-20X60-5" at -100,300 h40
  text ".0374" at 141.8,-315 h40
  text ".0374" at 179.2,-197 h40
  text ".0748" at 179.2,157 h40
  text ".1180" at -241.8,175 h40

## SOT23-28X44 [mil] "SOT23-28X44"
pads (3):
  rect 28x44 smd: 1(-38,-42) 2(38,-42) 3(0,42)
Top Overlay:
  lines w6: -60,-5 -60,30 -30,30 ; -10,-30 10,-30 ; 30,30 60,30 60,-5
Mechanical 15:
  text "2" at 38,-26 h40
  text "1" at -38,-26 h40
  text "3" at 0,58 h40
Mechanical 16:
  region: -65,-75 65,-75 65,75 -65,75
  lines w1: -210,-42 -63,-42 ; -210,0 -120,0 ; -185,-162 -185,-42 ; -185,111 -185,0 ; -181,0 -25,0 ; -150,0 -135,0 ; -150,42 -25,42 ; -130,0 -105,0 ; -126,-150 -38,-150 ; -125,-120 -125,0 ; -125,116 -125,42 ; -120,-240 0,-240 ; -60,-10 -60,30 ; -38,-175 -38,-67 ; -30,30 -60,30 ; -10,-30 10,-30 ; 0,-281 0,-25 ; 0,-265 0,-75 ; 0,-175 0,-90 ; 30,30 60,30 ; 38,-265 38,-67 ; 60,-10 60,30 ; 116,-240 38,-240 ; 120,-150 0,-150 ; -185,-42 -195,-102 -175,-102 -185,-42 ; -185,0 -175,60 -195,60 -185,0 ; -125,0 -135,-60 -115,-60 -125,0 ; -125,42 -115,102 -135,102 -125,42 ; -60,30 60,30 ; -60,30 -60,-30 60,-30 60,30 ; -38,-150 -98,-140 -98,-160 -38,-150 ; 0,-240 -60,-230 -60,-250 0,-240 ; 0,-150 60,-160 60,-140 0,-150 ; 38,-240 98,-250 98,-230 38,-240
Multi-Layer:
  region: -20,20 20,20 20,-65 -20,-65
Mechanical 17:
  text "X" at 50,5 h40
  text "X" at 15,5 h40
  text "MMBD4148" at -20,5 h40
  text ".Designator" at -76,-42 h40
Mechanical 20:
  text "0" at -255,-20 h40
  text "0" at -20,-355 h40
  text ".042" at -105,150 h40
  text ".042" at -165,145 h40
  text ".038" at -350,-170 h40
  text ".038" at 150,-260 h40
  text "SOT23-28X44" at -240,385 h40
  text "SP  28X44REC" at -280,-615 h40
  text "SM  36X50REC" at -280,-540 h40
  text "PAD 28X44REC" at -280,-475 h40

## SOT23-28X44-GSD [mil] "SOT23-28X44-GSD"
pads (3):
  rect 28x44 smd: D(0,-42) G(38,42) S(-38,42)
Top Overlay:
  lines w6: -60,5 -60,-30 -30,-30 ; -10,30 10,30 ; 30,-30 60,-30 60,5
Mechanical 15:
  text "S" at -38,26 h40
  text "G" at 38,26 h40
  text "D" at 0,-58 h40
Mechanical 16:
  region: 65,75 -65,75 -65,-75 65,-75
  lines w1: -120,150 0,150 ; -116,240 -38,240 ; -60,10 -60,-30 ; -38,67 -38,265 ; -30,-30 -60,-30 ; -10,30 10,30 ; 0,25 0,281 ; 0,75 0,265 ; 0,90 0,175 ; 25,-42 150,-42 ; 25,0 181,0 ; 30,-30 60,-30 ; 38,67 38,175 ; 60,10 60,-30 ; 63,42 210,42 ; 105,0 130,0 ; 120,0 210,0 ; 120,240 0,240 ; 125,-116 125,-42 ; 125,120 125,0 ; 126,150 38,150 ; 135,0 150,0 ; 185,-111 185,0 ; 185,162 185,42 ; -60,-30 -60,30 60,30 60,-30 ; -60,-30 60,-30 ; -38,240 -98,250 -98,230 -38,240 ; 0,150 -60,160 -60,140 0,150 ; 0,240 60,230 60,250 0,240 ; 38,150 98,140 98,160 38,150 ; 125,-42 115,-102 135,-102 125,-42 ; 125,0 135,60 115,60 125,0 ; 185,0 175,-60 195,-60 185,0 ; 185,42 195,102 175,102 185,42
Multi-Layer:
  region: 20,-20 -20,-20 -20,65 20,65
Mechanical 20:
  text "0" at 255,20 h40
  text "0" at 20,355 h40
  text ".042" at 105,-150 h40
  text ".042" at 165,-145 h40
  text ".038" at 350,170 h40
  text ".038" at -150,260 h40
  text "SOT23-28X44" at 240,-385 h40
  text "SP  28X44REC" at 280,615 h40
  text "SM  36X50REC" at 280,540 h40
  text "PAD 28X44REC" at 280,475 h40
Mechanical 21:
  text "X" at -50,-5 h40
  text "X" at -15,-5 h40
  text "BSS138" at 20,-5 h40
  text ".Designator" at 76,42 h40

## ST_3500 [mil] "ST_3500"
pads (6):
  rect 100x94 smd: 1(-145,191) 2(-137,-176) 3(145,116)
  rect 115x98 smd: 4(30,-334)
  round 20 / inner round 100 / far side round 20 hole 63: 5(0,147) 6(0,-128)
Top Overlay:
  lines w6: -118,-241 -118,-285 -45,-285 ; -118,-111 -118,126 ; -118,256 -118,285 118,285 118,181 ; -100,285 -100,385 100,385 100,285 ; 105,-285 118,-285 118,51
  text ".Designator" at 175,197.5 h35
Mechanical 15:
  text "5" at -14,147 h35
  text "6" at -14,-128 h35
  text "1" at -159,191 h35
  text "4" at 16,-334 h35
  text "2" at -151,-176 h35
  text "3" at 131,116 h35
Mechanical 16:
  region: -200,402.5 200,402.5 200,37.5 160,37.5 160,-272.5 200,-272.5 200,-392.5 190,-402.5 -200,-402.5 -200,-367.5 -180,-367.5 -180,-287.5 -200,-287.5